# Altium footprint library QFN-48_L7.0-W7.0-P0.50-TL-EP5.4-1.PcbLib: 1 footprints
Each footprint in its own frame and in the unit in brackets; x right, y up, seen from the top. Pads: shape width x height; smd on the part's side, far side on the other; paste and mask are expansions set on the pad; w line width, h text height; cw(c..) or ccw(c..) is an arc to the next point about the centre after c.
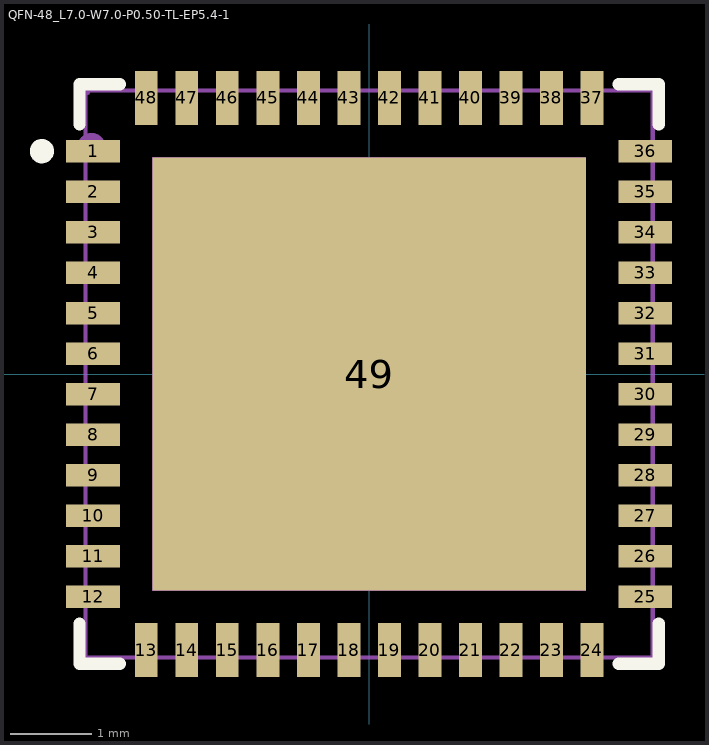
[diagram p0: the footprint, top view; thin cyan lines are the x and y axes]

## QFN-48_L7.0-W7.0-P0.50-TL-EP5.4-1 [mm]
pads (49):
  rect 0.665x0.28 smd paste-100 mask+0.05: 1(-3.407,2.75) 2(-3.407,2.25) 3(-3.407,1.75) 4(-3.407,1.25) 5(-3.407,0.75) 6(-3.407,0.25) 7(-3.407,-0.25) 8(-3.407,-0.75) 9(-3.407,-1.25) 10(-3.407,-1.75) 11(-3.407,-2.25) 12(-3.407,-2.75) 25(3.407,-2.75) 26(3.407,-2.25) 27(3.407,-1.75) 28(3.407,-1.25) 29(3.407,-0.75) 30(3.407,-0.25) 31(3.407,0.25) 32(3.407,0.75) 33(3.407,1.25) 34(3.407,1.75) 35(3.407,2.25) 36(3.407,2.75)
  rect 0.28x0.665 smd paste-100 mask+0.05: 13(-2.75,-3.407) 14(-2.25,-3.407) 15(-1.75,-3.407) 16(-1.25,-3.407) 17(-0.75,-3.407) 18(-0.25,-3.407) 19(0.25,-3.407) 20(0.75,-3.407) 21(1.25,-3.407) 22(1.75,-3.407) 23(2.25,-3.407) 24(2.75,-3.407) 37(2.75,3.407) 38(2.25,3.407) 39(1.75,3.407) 40(1.25,3.407) 41(0.75,3.407) 42(0.25,3.407) 43(-0.25,3.407) 44(-0.75,3.407) 45(-1.25,3.407) 46(-1.75,3.407) 47(-2.25,3.407) 48(-2.75,3.407)
  rect 5.35x5.35 smd paste-100 mask+0.05: 49(0,0)
Top Overlay:
  circle w0.15: c-4.04,2.75 r0.075
  lines w0.152: -3.576,-3.08 -3.576,-3.576 -3.081,-3.576 ; -3.576,3.081 -3.576,3.576 -3.081,3.576 ; 3.08,-3.576 3.576,-3.576 3.576,-3.08 ; 3.08,3.576 3.576,3.576 3.576,3.081
Top Paste:
  drawing of 49 lines, arcs and shapes, not listed
Mechanical 6:
  circle w0.18: c-3.429,2.794 r0.09
Mechanical 15:
  drawing of 54 lines, arcs and shapes, not listed